# EAGLE library part LT1934ES6TRMPBF (library farnell-parts)
Micropower Step-Down Switching Regulators
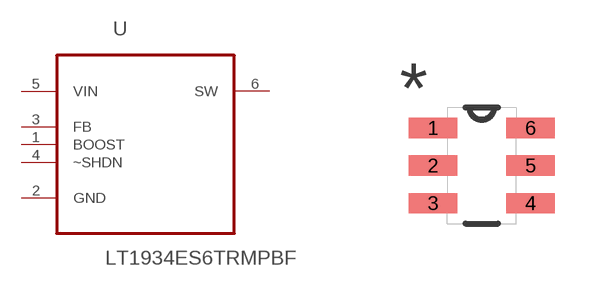
[diagram p0: symbol with the pads of SOT95P280X100-6N; footprint SOT95P280X100-6N]

Designator prefix U

## LT1934ES6TRMPBF (MPN: LT1934ES6#TRMPBF; OC_FARNELL: 1663810; OC_NEWARK: 59M8316; PACKAGE: TSOT-23-6; SUPPLIER: Linear Technology)  [SOT95P280X100-6N]
1  BOOST  pwr
2  GND  pwr
3  FB  pwr
4  ~SHDN  in
5  VIN  pwr
6  SW  pwr

## Footprint SOT95P280X100-6N (pad centres in mm)
smd 1.219 x 0.508: 1 -1.219,0.94; 2 -1.219,0; 3 -1.219,-0.94; 4 1.219,-0.94; 5 1.219,0; 6 1.219,0.94